# Altium schematic symbol library dolphi_ecs.SchLib: 38 symbols
Pins are listed as number, name and electrical type; pins without a type are passive.

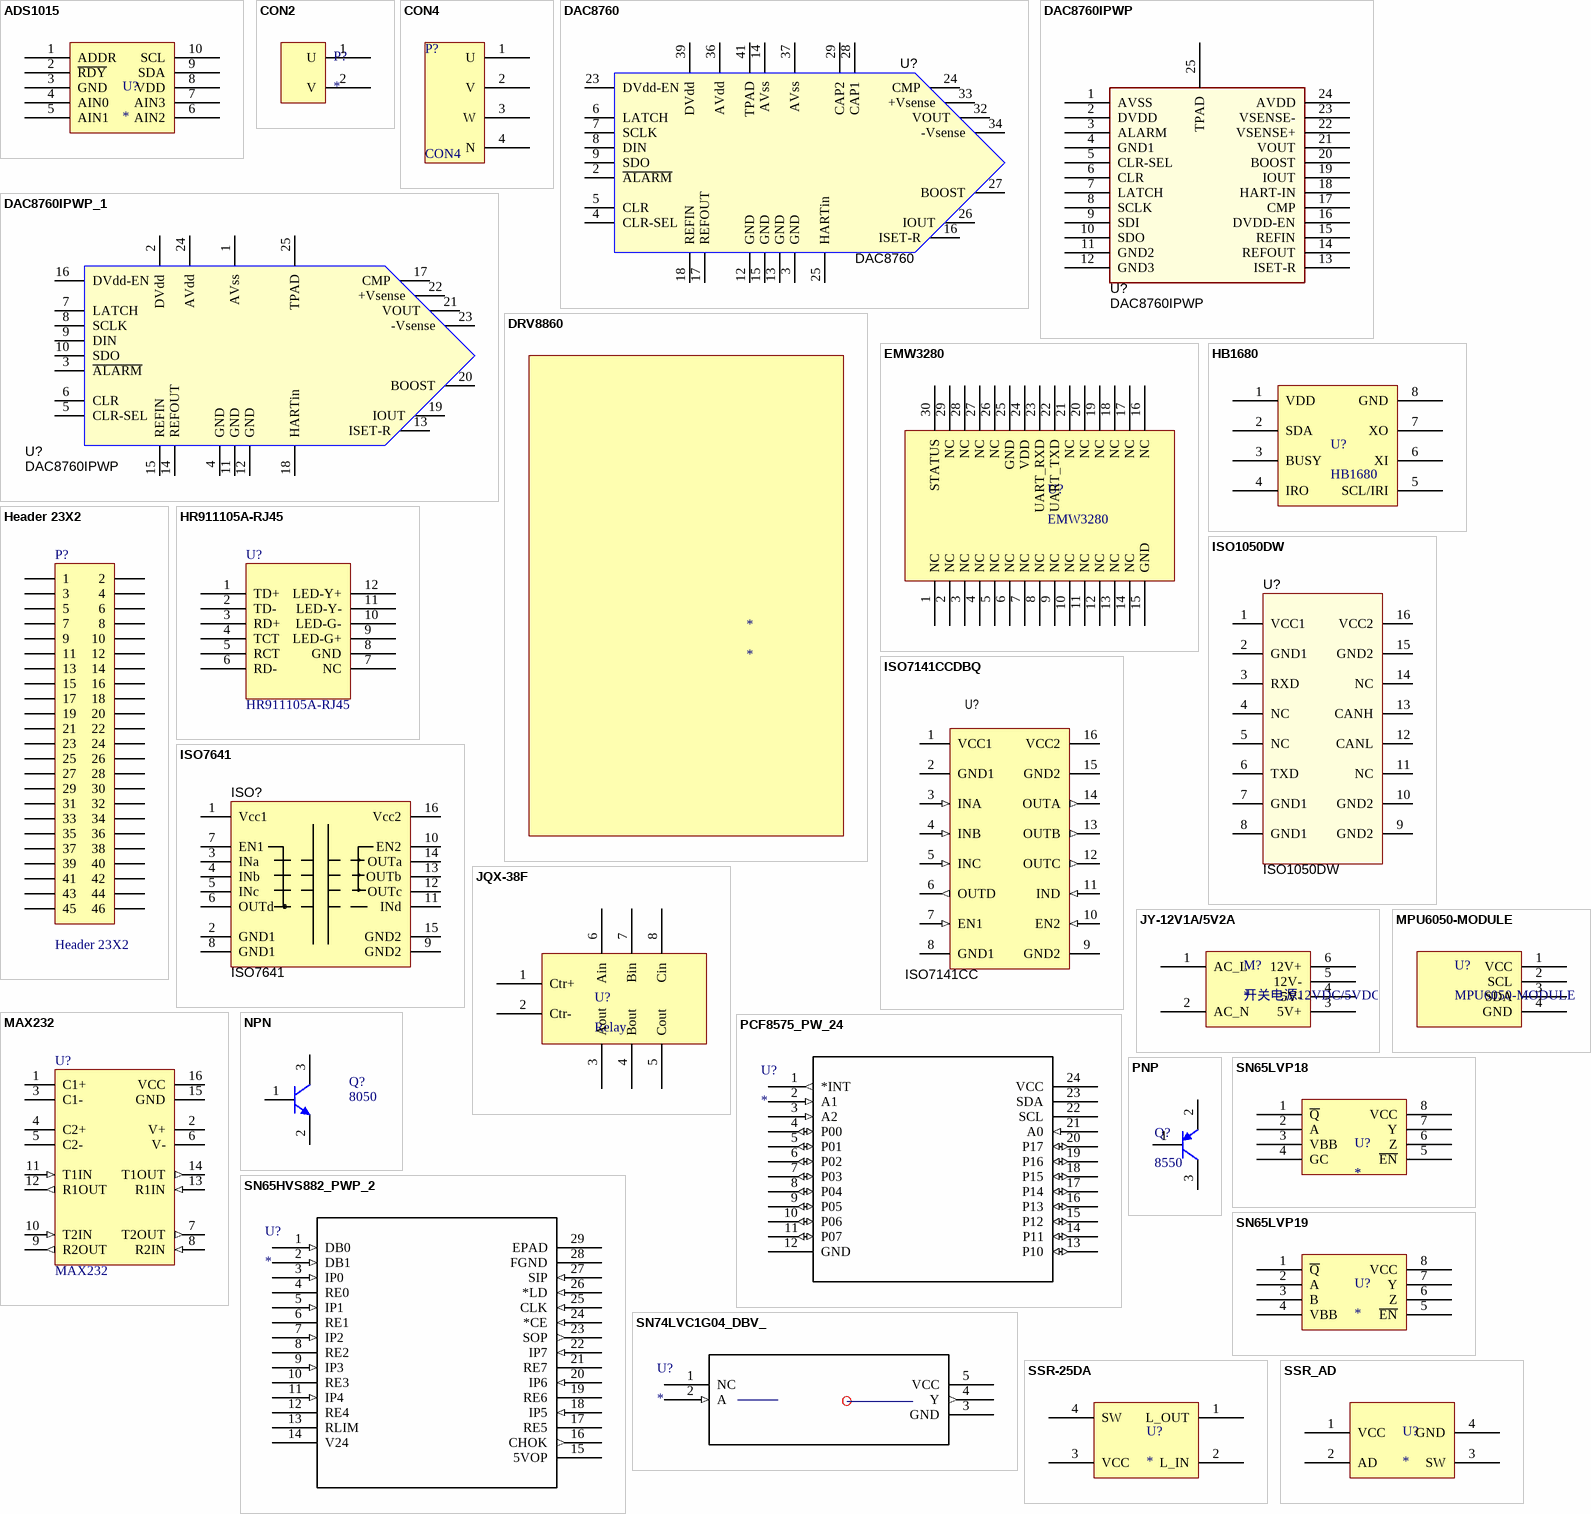
[diagram p0: symbols ADS1015 to SSR_AD]

## ADS1015
designator U?
footprint MUB10A_N (TSSOP, 10-Leads, Body 3x3mm, Pitch 0.5mm, IPC Medium Density)
pins: 1 ADDR, 2 ~{RDY}, 3 GND (power), 4 AIN0, 5 AIN1, 6 AIN2, 7 AIN3, 8 VDD (power), 9 SDA, 10 SCL

## CON2
designator P?
pins: 1 U, 2 V

## CON4
designator P?
footprint CON4 - 9.6mm (4脚接线端子25A)
pins: 1 U, 2 V, 3 W, 4 N

## DAC8760
designator U?
DAC8760 DAC-XTR RTA QFN-40; Manufacturer: Texas Instruments; SymbolVersion: use current date i.e. 2008-05-20; SymbolCreator: Use LDAP id; CompType: XTR; U/M: EA, IN, or GM; MountType: SMT; RoHS: Y; PartNumber: DAC8760; PackageReference: QFN-40 RTA; ComponentLink1Description: Datasheet Link; Alternate PartNumber: -; Alternate Manufacturer: -
footprint SQA40A (QFN, 40-Leads, Body 6x6mm, Pitch 0.5mm, NSC Recommended)
pins: 1 NC hidden, 2 ~{ALARM}, 3 GND, 4 CLR-SEL, 5 CLR, 6 LATCH, 7 SCLK, 8 DIN, 9 SDO, 10 NC hidden, 11 NC hidden, 12 GND, 13 GND, 14 AVss, 15 GND, 16 ISET-R, 17 REFOUT, 18 REFIN, 19 NC hidden, 20 NC hidden, 21 NC hidden, 22 NC hidden, 23 DVdd-EN, 24 CMP, 25 HARTin, 26 IOUT, 27 BOOST, 28 CAP1, 29 CAP2, 30 NC hidden, 31 NC hidden, 32 VOUT, 33 +Vsense, 34 -Vsense, 35 NC hidden, 36 AVdd, 37 AVss, 38 NC hidden, 39 DVdd, 40 NC hidden, 41 TPAD

## DAC8760IPWP
designator U?
1-Channel, 16-Bit, Programmable Current/Voltage Output DAC for 4-20mA Current Loop Applications; Manufacturer: Texas Instruments; CompType: IC; SymbolCreator: x0120606; ComponentLink1URL: http://www.ti.com/lit/gpn/dac8760; PartNumber: DAC8760IPWP; Alternate Manufacturer: *; Alternate PartNumber: *; PackageReference: HTSSOP (PWP) 24; MountType: SMT; Publisher: Texas Instruments; RoHS: Y; ComponentLink1Description: Datasheet link
footprint PWP24-DIE84X166 (Footprint not found)
pins: 1 AVSS, 2 DVDD, 3 ALARM, 4 GND1, 5 CLR-SEL, 6 CLR, 7 LATCH, 8 SCLK, 9 SDI, 10 SDO, 11 GND2, 12 GND3, 13 ISET-R, 14 REFOUT, 15 REFIN, 16 DVDD-EN, 17 CMP, 18 HART-IN, 19 IOUT, 20 BOOST, 21 VOUT, 22 VSENSE+, 23 VSENSE-, 24 AVDD, 25 TPAD

## DAC8760IPWP_1
designator U?, comment DAC8760IPWP
1-Channel, 16-Bit, Programmable Current/Voltage Output DAC for 4-20mA Current Loop Applications; Manufacturer: Texas Instruments; CompType: IC; SymbolCreator: x0120606; ComponentLink1URL: http://www.ti.com/lit/gpn/dac8760; PartNumber: DAC8760IPWP; Alternate Manufacturer: *; Alternate PartNumber: *; PackageReference: HTSSOP (PWP) 24; MountType: SMT; Publisher: Texas Instruments; RoHS: Y; ComponentLink1Description: Datasheet link
footprint PWP24-DIE84X166 (Footprint not found)
pins: 1 AVss, 2 DVdd, 3 ~{ALARM}, 4 GND, 5 CLR-SEL, 6 CLR, 7 LATCH, 8 SCLK, 9 DIN, 10 SDO, 11 GND, 12 GND, 13 ISET-R, 14 REFOUT, 15 REFIN, 16 DVdd-EN, 17 CMP, 18 HARTin, 19 IOUT, 20 BOOST, 21 VOUT, 22 +Vsense, 23 -Vsense, 24 AVdd, 25 TPAD

## DRV8860
designator *

## EMW3280
designator U?
footprint EMW-3280
pins: 1 NC, 2 NC, 3 NC, 4 NC, 5 NC, 6 NC, 7 NC, 8 NC, 9 NC, 10 NC, 11 NC, 12 NC, 13 NC, 14 NC, 15 GND, 16 NC, 17 NC, 18 NC, 19 NC, 20 NC, 21 NC, 22 UART_TXD, 23 UART_RXD (power), 24 VDD, 25 GND, 26 NC, 27 NC, 28 NC, 29 NC, 30 STATUS

## HB1680
designator U?
红外遥控芯片
footprint SOIC127P600X145-8N (SOIC, 8-Leads, Body 5.0x3.8mm (max), Pitch 1.27mm, IPC Medium Density)
pins: 1 VDD, 2 SDA, 3 BUSY, 4 IRO, 5 SCL/IRI, 6 XI, 7 XO, 8 GND

## Header 23X2
designator P?
Header, 23-Pin, Dual row; LatestRevisionDate: 17-Jul-2002; LatestRevisionNote: Re-released for DXP Platform.; Publisher: Altium Limited
footprint HDR2X23 (Connector; Header; 23x2 Position)
signal-integrity model Connector
pins: 1, 2, 3, 4, 5, 6, 7, 8, 9, 10, 11, 12, 13, 14, 15, 16, 17, 18, 19, 20, 21, 22, 23, 24, 25, 26, 27, 28, 29, 30, 31, 32, 33, 34, 35, 36, 37, 38, 39, 40, 41, 42, 43, 44, 45, 46

## HR911105A-RJ45
designator U?
footprint HR911105A
pins: 1 TD+, 2 TD-, 3 RD+, 4 TCT, 5 RCT, 6 RD-, 7 NC, 8 GND, 9 LED-G+, 10 LED-G-, 11 LED-Y-, 12 LED-Y+

## ISO1050DW
designator U?
IC TXRX ISOLATED CAN 5V 16SOIC; Manufacturer: Texas Instruments; Number of Drivers/Receivers: 1/1; Voltage - Supply: 3 V ~ 5.5 V; Supplier 1: Digi-Key; RoHS: RoHS Compliant; Pricing 1: 1=5.29, 10=4.725, 100=2.5515, 250=2.50424, 500=2.457, 750=2.40975, 1000=2.3625 (USD); Packaging: Bulk; Type: Transceiver; Protocol: CAN; MountType: Surface Mount; PackageReference: 16-SOIC (0.295", 7.50mm Width); Supplier Device Package: 16-SOIC; ComponentLink1URL: http://www.ti.com/lit/ds/symlink/iso1050.pdf; ComponentLink1Description: http://www.ti.com/lit/ds/symlink/iso1050.pdf; Supplier Part Number 1: 296-28089-ND; PartNumber: ISO1050DW
footprint ISO1050DW (IC TXRX ISOLATED CAN 5V 16SOIC)
pins: 1 VCC1, 2 GND1, 3 RXD, 4 NC, 5 NC, 6 TXD, 7 GND1, 8 GND1, 9 GND2, 10 GND2, 11 NC, 12 CANL, 13 CANH, 14 NC, 15 GND2, 16 VCC2

## ISO7141CCDBQ
designator U?, comment ISO7141CC
4242-VPK Small-Footprint and Low-Power Quad Channels Digital Isolators, DBQ0016A; PartNumber: ISO7141CCDBQ; Alternate Manufacturer: None; Manufacturer: Texas Instruments; SymbolCreator: a0799628; CompType: IC; U/M: EA; SymbolVersion: 2013-09-25; PackageReference: DBQ0016A; MountType: SMT; ComponentLink1Description: Datasheet Link; ComponentLink1URL: http://www.ti.com/lit/ds/symlink/iso7141cc.pdf; RoHS: Y; Publisher: Texas Instruments; LatestRevisionDate: 2013-11-22
footprint DBQ0016A_N (SOP, 16-Leads, Body 4.9x3.9mm, Pitch 0.635mm, IPC Medium Density)
footprint DBQ0016A_M
footprint DBQ0016A_L
pins: 1 VCC1 (power), 2 GND1 (power), 3 INA (in), 4 INB (in), 5 INC (in), 6 OUTD (out), 7 EN1 (in), 8 GND1 (power), 9 GND2 (power), 10 EN2 (in), 11 IND (in), 12 OUTC (out), 13 OUTB (out), 14 OUTA (out), 15 GND2 (power), 16 VCC2 (power)

## ISO7641
designator ISO?
ISOLATOR DGTL 25MBPS 4CH 16SOIC; Manufacturer: Texas Instruments Inc; PartNumber: ISO7641FCDW; SymbolVersion: use current date i.e. 2008-05-20; SymbolCreator: Use LDAP id; CompType: Used in some BOM reports.  Useful for finding later.; U/M: EA, IN, or GM; MountType: SMT; RoHS: Y; PackageReference: SOIC-16; ComponentLink1Description: http://www.ti.com/lit/ds/symlink/iso7241c.pdf; Alternate PartNumber: -; Alternate Manufacturer: -; Supplier Part Number 1: ISO7641FCDW-ND
footprint M16B_N (SOIC, 16-Leads, Body 10.3x7.5mm, Pitch 1.27mm, IPC Medium Density)
pins: 1 Vcc1, 2 GND1, 3 INa, 4 INb, 5 INc, 6 OUTd, 7 EN1, 8 GND1, 9 GND2, 10 EN2, 11 INd, 12 OUTc, 13 OUTb, 14 OUTa, 15 GND2, 16 Vcc2

## JQX-38F
designator U?, comment Relay
footprint JQX-38F
pins: 1 Ctr+, 2 Ctr-, 3 Aout, 4 Bout, 5 Cout, 6 Ain, 7 Bin, 8 Cin

## JY-12V1A/5V2A
designator M?  C: 开关电源12VDC/5VDC
footprint JY-12V1A/5V2A
pins: 1 AC_L, 2 AC_N, 3 5V+, 4 5V-, 5 12V-, 6 12V+

## MAX232
designator U?
+5V Powered, Multi-Channel RS-232 Driver/Receiver; Published: 16-Jan-2001; LatestRevisionDate: 13-Apr-2006; LatestRevisionNote: IPC-7351 Footprint Added.; PackageReference: NSO16; Publisher: Altium Limited; PackageDescription: 16-Pin Small Outline Integrated Circuit 1.27 mm Pitch; Code_JEDEC: MS-012-AC; Code_IPC: SOIC127P600-16; ComponentLink1Description: Manufacturer Link; ComponentLink1URL: http://www.maxim-ic.com/; ComponentLink2Description: Datasheet; ComponentLink2URL: http://pdfserv.maxim-ic.com/en/ds/MAX220-MAX249.pdf
footprint NSO16_N
pins: 1 C1+, 2 V+ (power), 3 C1-, 4 C2+, 5 C2-, 6 V- (power), 7 T2OUT (out), 8 R2IN (in), 9 R2OUT (out), 10 T2IN (in), 11 T1IN (in), 12 R1OUT (out), 13 R1IN (in), 14 T1OUT (out), 15 GND (power), 16 VCC (power)

## MPU6050-MODULE
designator U?
footprint MPU6050-MODULE
pins: 1 VCC, 2 SCL, 3 SDA, 4 GND

## NPN
designator Q?, comment 8050
NPN Transistor
footprint SOT23-3
pins: 1 B, 2 E, 3 C

## PCF8575_PW_24
designator U?
Imported; Manufacturer: Texas Instruments; GENERIC_PART_NUMBER: PCF8575; Manufacturer_Part_Number: pcf8575_pw_24; INDUSTRY_STD_PKG_TYPE: TSSOP; FAMILY_NAME: I2C IO EXPANDER; PIN_COUNT: 24; PACKAGE_DESIGNATOR: PW; Datasheet URL: http://www.ti.com/lit/gpn/PCF8575; Vendor: Texas Instruments; RefDes: RefDes; Type: DEV; Value: Value
footprint PW24
pins: 1 *INT (out), 2 A1 (in), 3 A2 (in), 4 P00 (io), 5 P01 (io), 6 P02 (io), 7 P03 (io), 8 P04 (io), 9 P05 (io), 10 P06 (io), 11 P07 (io), 12 GND (power), 13 P10 (io), 14 P11 (io), 15 P12 (io), 16 P13 (io), 17 P14 (io), 18 P15 (io), 19 P16 (io), 20 P17 (io), 21 A0 (in), 22 SCL, 23 SDA, 24 VCC (power)

## PNP
designator Q?, comment 8550
footprint Sot23-3
pins: 1 B, 2 E, 3 C

## SN65HVS882_PWP_2
designator U?
Imported; Manufacturer: Texas Instruments; GENERIC_PART_NUMBER: SN65HVS882; Manufacturer_Part_Number: sn65hvs882_pwp_28; INDUSTRY_STD_PKG_TYPE: HTSSOP; FAMILY_NAME: INDUSTRIAL SERDES; PIN_COUNT: 28; PACKAGE_DESIGNATOR: PWP; Datasheet URL: http://www.ti.com/lit/gpn/SN65HVS882; Vendor: Texas Instruments; RefDes: RefDes; Type: DEV; Value: Value
footprint PWP28_6P17X2P4
pins: 1 DB0 (in), 2 DB1 (in), 3 IP0 (in), 4 RE0, 5 IP1 (in), 6 RE1, 7 IP2 (in), 8 RE2, 9 IP3 (in), 10 RE3, 11 IP4 (in), 12 RE4, 13 RLIM, 14 V24 (power), 15 5VOP (power), 16 CHOK (out), 17 RE5, 18 IP5 (in), 19 RE6, 20 IP6 (in), 21 RE7, 22 IP7 (in), 23 SOP (out), 24 *CE (in), 25 CLK (in), 26 *LD (in), 27 SIP (in), 28 FGND (power), 29 EPAD

## SN65LVP18
designator U?
pins: 1 ~{Q}, 2 A, 3 VBB, 4 GC, 5 ~{EN}, 6 Z, 7 Y, 8 VCC (power), 9 GND (power) hidden to GND

## SN65LVP19
designator U?
pins: 1 ~{Q}, 2 A, 3 B, 4 VBB, 5 ~{EN}, 6 Z, 7 Y, 8 VCC (power)

## SN74LVC1G04_DBV_
designator U?
Imported; Manufacturer: Texas Instruments; GENERIC_PART_NUMBER: SN74LVC1G04; Manufacturer_Part_Number: sn74lvc1g04_dbv_5; INDUSTRY_STD_PKG_TYPE: SOT-23; FAMILY_NAME: LL INVERTER; PIN_COUNT: 5; PACKAGE_DESIGNATOR: DBV; Datasheet URL: http://www.ti.com/lit/gpn/SN74LVC1G04; Vendor: Texas Instruments; RefDes: RefDes; Type: DEV; Value: Value
footprint DBV5
pins: 1 NC, 2 A (in), 3 GND (power), 4 Y (out), 5 VCC (power)

## SSR-25DA
designator U?
footprint SSR-25DA (FOTEK单相固态继电器)
pins: 1 L_OUT, 2 L_IN, 3 VCC, 4 SW

## SSR_AD
designator U?
footprint SSR_AD (可控硅+电流采样（固态继电器）)
pins: 1 VCC, 2 AD, 3 SW, 4 GND

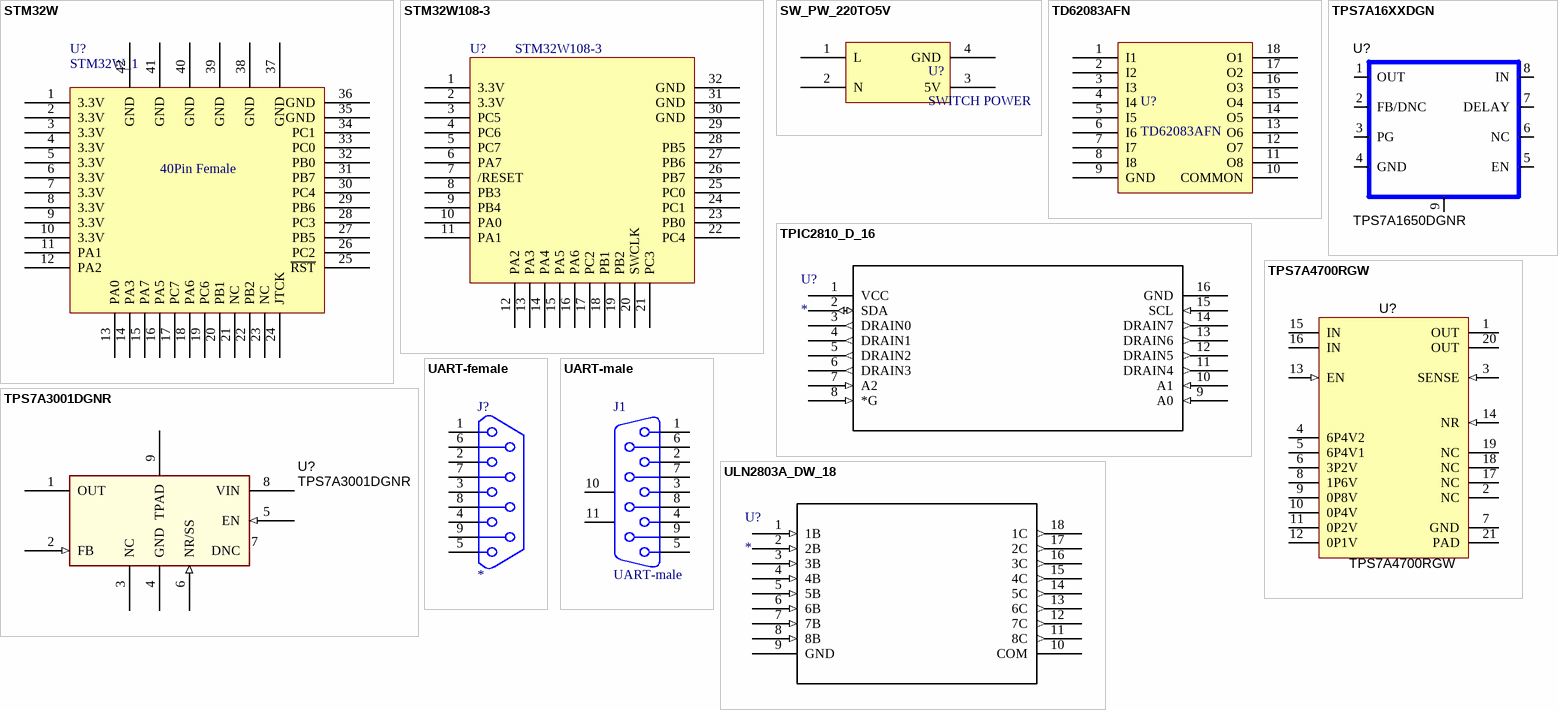
[diagram p1: symbols STM32W to ULN2803A_DW_18]

## STM32W
designator U?, comment STM32W_1
footprint 40PinFemale
pins: 1 3.3V, 2 3.3V, 3 3.3V, 4 3.3V, 5 3.3V, 6 3.3V, 7 3.3V, 8 3.3V, 9 3.3V, 10 3.3V, 11 PA1, 12 PA2, 13 PA0, 14 PA3, 15 PA7, 16 PA5, 17 PC7, 18 PA6, 19 PC6, 20 PB1, 21 NC, 22 PB2, 23 NC, 24 JTCK, 25 ~{RST}, 26 PC2, 27 PB5, 28 PC3, 29 PB6, 30 PC4, 31 PB7, 32 PB0, 33 PC0, 34 PC1, 35 GND, 36 GND, 37 GND, 38 GND, 39 GND, 40 GND, 41 GND, 42 GND
text: 40Pin Female

## STM32W108-3
designator U?
footprint STM32W108-3
pins: 1 3.3V, 2 3.3V, 3 PC5, 4 PC6, 5 PC7, 6 PA7, 7 /RESET, 8 PB3, 9 PB4, 10 PA0, 11 PA1, 12 PA2, 13 PA3, 14 PA4, 15 PA5, 16 PA6, 17 PC2, 18 PB1, 19 PB2, 20 SWCLK, 21 PC3, 22 PC4, 23 PB0, 24 PC1, 25 PC0, 26 PB7, 27 PB6, 28 PB5, 29, 30 GND, 31 GND, 32 GND

## SW_PW_220TO5V
designator U?, comment SWITCH POWER
Power5V
footprint SW_PW220To5V
footprint JY-S13-5V (精跃开关电源5V，13W)
pins: 1 L, 2 N, 3 5V, 4 GND

## TD62083AFN
designator U?
footprint SSOP18
pins: 1 I1, 2 I2, 3 I3, 4 I4, 5 I5, 6 I6, 7 I7, 8 I8, 9 GND, 10 COMMON, 11 O8, 12 O7, 13 O6, 14 O5, 15 O4, 16 O3, 17 O2, 18 O1

## TPIC2810_D_16
designator U?
Imported; Manufacturer_Part_Number: tpic2810_d_16; GENERIC_PART_NUMBER: TPIC2810; Vendor: Texas Instruments; PACKAGE_DESIGNATOR: D; PIN_COUNT: 16; FAMILY_NAME: POWERPLUS LOGIC; INDUSTRY_STD_PKG_TYPE: SOIC; Datasheet URL: http://www.ti.com/lit/gpn/TPIC2810; Manufacturer: Texas Instruments; RefDes: RefDes; Type: DEV; Value: Value
footprint D16
pins: 1 VCC (power), 2 SDA (io), 3 DRAIN0 (out), 4 DRAIN1 (out), 5 DRAIN2 (out), 6 DRAIN3 (out), 7 A2 (in), 8 *G (in), 9 A0 (in), 10 A1 (in), 11 DRAIN4 (out), 12 DRAIN5 (out), 13 DRAIN6 (out), 14 DRAIN7 (out), 15 SCL (in), 16 GND (power)

## TPS7A16XXDGN
designator U?, comment TPS7A1650DGNR
IC, 60-V, 6-A IQ, 100-mA, LDO Voltage Regulator with Enable and Power-Good Functions; Manufacturer: TI; Alternate Manufacturer: None; Area: 35250; ComponentLink1URL: http://www.ti.com/lit/ds/symlink/tps7a1650.pdf; SymbolVersion: 08/05/2011 15:48:52; PackageReference: HTSSOP8; PartNumber: TPS7A1650DGNR; Value: TPS7A1650DGNR; ComponentLink1Description: AEO Datasheet Link
footprint DGN_8P
pins: 1 OUT, 2 FB/DNC, 3 PG, 4 GND, 5 EN, 6 NC, 7 DELAY, 8 IN, 9

## TPS7A3001DGNR
designator U?
-36V, -200mA, Ultralow-Noise, Negative Linear Regulator; Alternate Manufacturer: None; Manufacturer: Texas Instruments; CompType: IC; SymbolCreator: x0120606; ComponentLink1URL: http://www.ti.com/lit/ds/symlink/tps7a3001.pdf; ComponentLink1Description: Datasheet Link; Publisher: Texas Instruments; PackageReference: MSOP-PowerPAD (DGN) | 8; RoHS: Y; PartNumber: TPS7A3001DGNR; MountType: SMT
footprint MSOP8(DGN)
pins: 1 OUT (power), 2 FB (in), 3 NC, 4 GND (power), 5 EN (in), 6 NR/SS (in), 7 DNC, 8 VIN (power), 9 TPAD

## TPS7A4700RGW
designator U?
36-V, 1-A, 4.17-礦RMS, RF LDO Voltage Regulator, RGW0020A; Alternate Manufacturer: None; Manufacturer: Texas Instruments; SymbolCreator: a0412235; CompType: IC; U/M: EA; SymbolVersion: 2013-02-13; PartNumber: TPS7A4700RGW; PackageReference: RGW0020A; MountType: SMT; ComponentLink1Description: Datasheet Link; ComponentLink1URL: http://www.ti.com/lit/ds/symlink/tps7a4700.pdf; RoHS: Y; Publisher: Texas Instruments; LatestRevisionDate: 2013-11-22
footprint RGW0020A
pins: 1 OUT (power), 2 NC, 3 SENSE (in), 4 6P4V2, 5 6P4V1, 6 3P2V, 7 GND (power), 8 1P6V, 9 0P8V, 10 0P4V, 11 0P2V, 12 0P1V, 13 EN (in), 14 NR (in), 15 IN (power), 16 IN (power), 17 NC, 18 NC, 19 NC, 20 OUT (power), 21 PAD

## UART-female
designator J?
RS232
footprint UART
pins: 1, 2, 3, 4, 5, 6, 7, 8, 9

## UART-male
designator J1
9针串口，插针型，公头; PackageDocument: O; Positions: 9; Gender: Receptacle; Published: 15-Jun-2001; LatestRevisionDate: 17-Jul-2002; LatestRevisionNote: Re-released for DXP Platform.; DatasheetDocument: 1-Sep-1999; PackageReference: 788750; Publisher: Altium Limited; Orientation: Right Angle
footprint UART - Male (带9根插针型)
signal-integrity model Connector
pins: 1, 2, 3, 4, 5, 6, 7, 8, 9, 10 MH1, 11 MH2

## ULN2803A_DW_18
designator U?
Imported; Manufacturer: Texas Instruments; GENERIC_PART_NUMBER: ULN2803A; INDUSTRY_STD_PKG_TYPE: SOIC; FAMILY_NAME: PERIPHERAL DRIVER AND ACTUATOR; PIN_COUNT: 18; PACKAGE_DESIGNATOR: DW; Datasheet URL: http://www.ti.com/lit/gpn/ULN2803A; RefDes: RefDes; Type: DEV; Value: Value
footprint DW18
pins: 1 1B (in), 2 2B (in), 3 3B (in), 4 4B (in), 5 5B (in), 6 6B (in), 7 7B (in), 8 8B (in), 9 GND (power), 10 COM, 11 8C (out), 12 7C (out), 13 6C (out), 14 5C (out), 15 4C (out), 16 3C (out), 17 2C (out), 18 1C (out)